# Altium integrated library TI Power Management DC-DC Controller (External Switch).IntLib: 349 symbols (part 14 of 28)
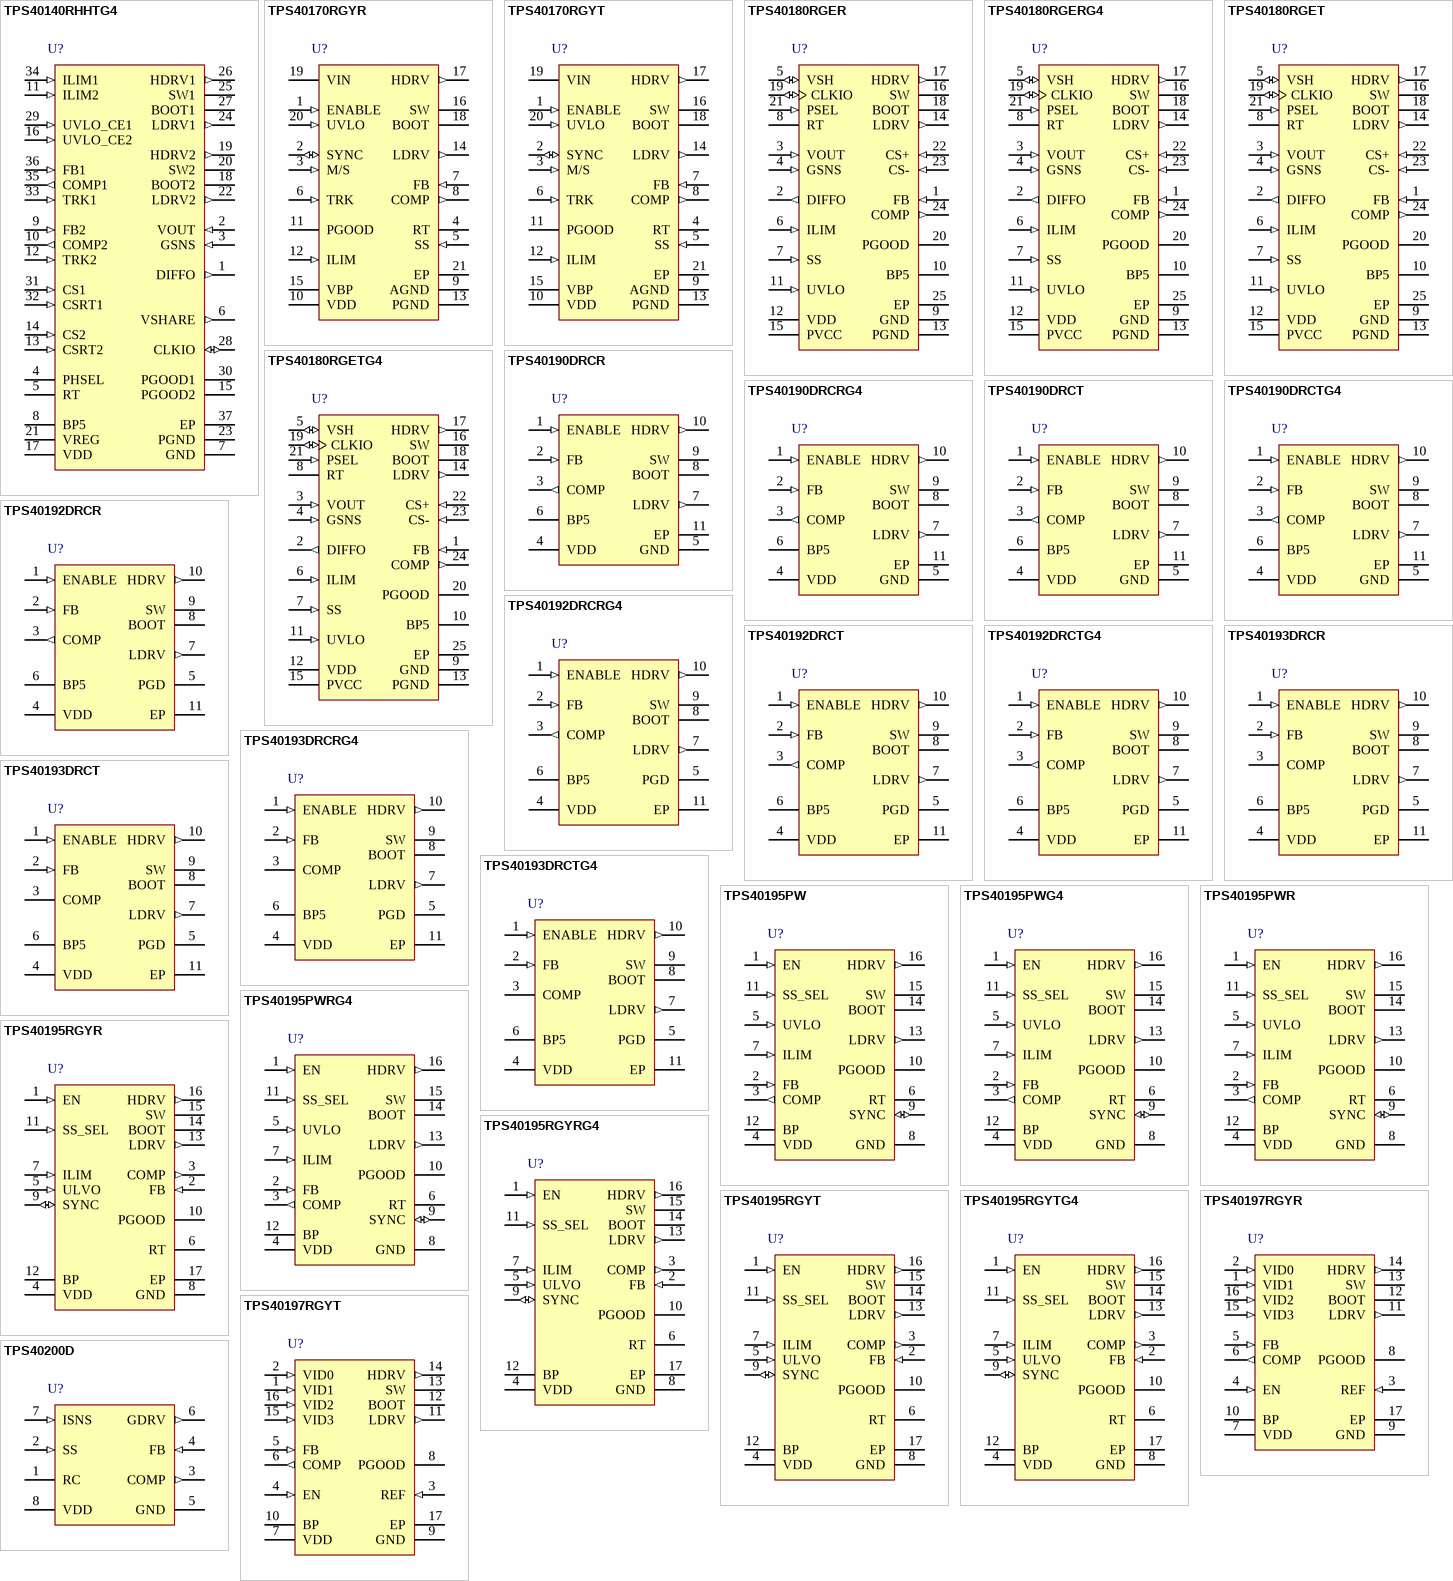
[diagram p27: symbols TPS40140RHHTG4 to TPS40200D]

## TPS40195PWG4
designator U?
4.5 to 20 V Buck Controller with Synchronization and Power Good, 85 % Duty Cycle, -40 to 85 degC, 16-pin TSSOP (PW), Green (RoHS & no Sb/Br); Manufacturer: Texas Instruments; PartNumber: TPS40195PWG4; Duty Cycle(Max)(%): 85; Iout(Max)(A): 20; Regulated Outputs(#): 1; SubFamily: Step-Down Controller; Switching Frequency(Max)(kHz): 600; Synchronous Rectification: TRUE; Vin(Min)(V): 4.5; Vout(Max)(V): 17; Vout(Min)(V): 0.591; DatasheetVersion: SLUS720E; PackageVersion: revG, Feb-2011; PackageReference: PW16; PackageDescription: 16-Pin Plastic Thin Small Outline Package 5 x 4.4 mm Body ,0.65 mm Pitch; Supplier 1: Digi-Key; Supplier Part Number 1: TPS40195PWG4-ND; Supplier 2: Newark; Supplier Part Number 2: 34M0171; Supplier 3: Mouser; Supplier Part Number 3: 595-TPS40195PWG4; Eco-Plan: Green (RoHS & no Sb/Br); Topology: Buck; Vin(Max)(V): 20; Mounting Technology: Surface Mount; Code_JEDEC: MO-153; ComponentLink1Description: Datasheet; ComponentLink1URL: http://www.ti.com/general/docs/lit/getliterature.tsp?genericPartNumber=TPS40195&fileType=pdf; ComponentLink2Description: Package Specification; ComponentLink2URL: http://www.ti.com/litv/pdf/mpds361
footprint PW16_N (TSOP, 16-Leads, Body 5x4.4mm, Pitch 0.65mm, IPC Medium Density)
footprint PW16_L (TSOP, 16-Leads, Body 5x4.4mm, Pitch 0.65mm, IPC High Density)
footprint PW16_M (TSOP, 16-Leads, Body 5x4.4mm, Pitch 0.65mm, IPC Low Density)
pins: 1 EN (in) "Logic level input which starts or stops the controller from an external user command. A high-level turns the controller on. A weak internal pull-up holds this pin high so that the pin may be left floating if this function is (See Datasheet)", 2 FB (in) "Inverting input to the error amplifier. In normal operation the voltage on this pin is equal to the internal reference voltage (591 mV typical)", 3 COMP (out) "Output of the error amplifier.", 4 VDD (power) "Power input to the controller. A 100 nF bypass capacitor should be connected closely from this pin to GND.", 5 UVLO (in) "Programmable UVLO pin for the controller. A resistor divider on this pin to VDD sets the converter turn on voltage and the hysteresis for turn-off.", 6 RT "Switching frequency programming pin. Also determines function of SYNC pin. Connected to GND for 250 kHz operation and using SYNC as an output. Connect to BP for 500-kHz operation and using SYNC as an output. Connect a (See Datasheet)", 7 ILIM (in) "Current limit. Sets short circuit protection threshold for low-side MOSFET sensing. Connect a resistor to GND to set the threshold", 8 GND (power) "Common reference for the device", 9 SYNC (io) "Bidirectional synchronization I/O pin. SYNC is an output when the RT pin is connected to BP or GND. The output is a falling edge signal 180degrees out-of-phase with the rising edge of HDRV. In this mode SYNC can be used to (See Datasheet)", 10 PGOOD (oc) "Open drain power good output. Pulls low under any fault condition, soft start is active or if the FB pin voltage is outside the specified voltage window.", 11 SS_SEL (in) "Soft-start timing selection. Can be connected to GND, BP or left floating to select a soft start time that is proportional to the switching frequency.", 12 BP (power) "Output bypass for the internal regulator. Connect a capacitor of 1-uF (or greater) from this pin to GND. Larger capacitors, up to 4.7uF will improve noise performance with a low side FET Qg over 25nC. Do not connect to VDD (See Datasheet)", 13 LDRV (out) "Gate drive output for the low side N-channel FET.", 14 BOOT (power) "Gate drive voltage for the high-side N-channel MOSFET. A 100-nF capacitor (typical) must be connected between this pin and SW", 15 SW (power) "Sense line for the adaptive anti-cross conduction circuitry. Serves as common connection for the flying high- side MOSFET driver", 16 HDRV (out) "Gate drive output to the high-side N-channel FET."

## TPS40195PWR
designator U?
4.5 to 20 V Buck Controller with Synchronization and Power Good, 85 % Duty Cycle, -40 to 85 degC, 16-pin TSSOP (PW), Green (RoHS & no Sb/Br); Manufacturer: Texas Instruments; PartNumber: TPS40195PWR; Duty Cycle(Max)(%): 85; Iout(Max)(A): 20; Regulated Outputs(#): 1; SubFamily: Step-Down Controller; Switching Frequency(Max)(kHz): 600; Synchronous Rectification: TRUE; Vin(Min)(V): 4.5; Vout(Max)(V): 17; Vout(Min)(V): 0.591; DatasheetVersion: SLUS720E; PackageVersion: revG, Feb-2011; PackageReference: PW16; PackageDescription: 16-Pin Plastic Thin Small Outline Package 5 x 4.4 mm Body ,0.65 mm Pitch; Supplier 1: Digi-Key; Supplier Part Number 1: 296-21617-2-ND; Supplier 2: Digi-Key; Supplier Part Number 2: 296-21617-1-ND; Supplier 3: Digi-Key; Supplier Part Number 3: 296-21617-6-ND; Supplier 4: Newark; Supplier Part Number 4: 34M0172; Supplier 5: Mouser; Supplier Part Number 5: 595-TPS40195PWR; Eco-Plan: Green (RoHS & no Sb/Br); Topology: Buck; Vin(Max)(V): 20; Mounting Technology: Surface Mount; Code_JEDEC: MO-153; ComponentLink1Description: Datasheet; ComponentLink1URL: http://www.ti.com/general/docs/lit/getliterature.tsp?genericPartNumber=TPS40195&fileType=pdf; ComponentLink2Description: Package Specification; ComponentLink2URL: http://www.ti.com/litv/pdf/mpds361
footprint PW16_N (TSOP, 16-Leads, Body 5x4.4mm, Pitch 0.65mm, IPC Medium Density)
footprint PW16_L (TSOP, 16-Leads, Body 5x4.4mm, Pitch 0.65mm, IPC High Density)
footprint PW16_M (TSOP, 16-Leads, Body 5x4.4mm, Pitch 0.65mm, IPC Low Density)
pins: 1 EN (in) "Logic level input which starts or stops the controller from an external user command. A high-level turns the controller on. A weak internal pull-up holds this pin high so that the pin may be left floating if this function is (See Datasheet)", 2 FB (in) "Inverting input to the error amplifier. In normal operation the voltage on this pin is equal to the internal reference voltage (591 mV typical)", 3 COMP (out) "Output of the error amplifier.", 4 VDD (power) "Power input to the controller. A 100 nF bypass capacitor should be connected closely from this pin to GND.", 5 UVLO (in) "Programmable UVLO pin for the controller. A resistor divider on this pin to VDD sets the converter turn on voltage and the hysteresis for turn-off.", 6 RT "Switching frequency programming pin. Also determines function of SYNC pin. Connected to GND for 250 kHz operation and using SYNC as an output. Connect to BP for 500-kHz operation and using SYNC as an output. Connect a (See Datasheet)", 7 ILIM (in) "Current limit. Sets short circuit protection threshold for low-side MOSFET sensing. Connect a resistor to GND to set the threshold", 8 GND (power) "Common reference for the device", 9 SYNC (io) "Bidirectional synchronization I/O pin. SYNC is an output when the RT pin is connected to BP or GND. The output is a falling edge signal 180degrees out-of-phase with the rising edge of HDRV. In this mode SYNC can be used to (See Datasheet)", 10 PGOOD (oc) "Open drain power good output. Pulls low under any fault condition, soft start is active or if the FB pin voltage is outside the specified voltage window.", 11 SS_SEL (in) "Soft-start timing selection. Can be connected to GND, BP or left floating to select a soft start time that is proportional to the switching frequency.", 12 BP (power) "Output bypass for the internal regulator. Connect a capacitor of 1-uF (or greater) from this pin to GND. Larger capacitors, up to 4.7uF will improve noise performance with a low side FET Qg over 25nC. Do not connect to VDD (See Datasheet)", 13 LDRV (out) "Gate drive output for the low side N-channel FET.", 14 BOOT (power) "Gate drive voltage for the high-side N-channel MOSFET. A 100-nF capacitor (typical) must be connected between this pin and SW", 15 SW (power) "Sense line for the adaptive anti-cross conduction circuitry. Serves as common connection for the flying high- side MOSFET driver", 16 HDRV (out) "Gate drive output to the high-side N-channel FET."

## TPS40195PWRG4
designator U?
4.5 to 20 V Buck Controller with Synchronization and Power Good, 85 % Duty Cycle, -40 to 85 degC, 16-pin TSSOP (PW), Green (RoHS & no Sb/Br); Manufacturer: Texas Instruments; PartNumber: TPS40195PWRG4; Duty Cycle(Max)(%): 85; Iout(Max)(A): 20; Regulated Outputs(#): 1; SubFamily: Step-Down Controller; Switching Frequency(Max)(kHz): 600; Synchronous Rectification: TRUE; Vin(Min)(V): 4.5; Vout(Max)(V): 17; Vout(Min)(V): 0.591; DatasheetVersion: SLUS720E; PackageVersion: revG, Feb-2011; PackageReference: PW16; PackageDescription: 16-Pin Plastic Thin Small Outline Package 5 x 4.4 mm Body ,0.65 mm Pitch; Supplier 1: Digi-Key; Supplier Part Number 1: TPS40195PWRG4-ND; Supplier 2: Newark; Supplier Part Number 2: 34M0173; Supplier 3: Mouser; Supplier Part Number 3: 595-TPS40195PWRG4; Eco-Plan: Green (RoHS & no Sb/Br); Topology: Buck; Vin(Max)(V): 20; Mounting Technology: Surface Mount; Code_JEDEC: MO-153; ComponentLink1Description: Datasheet; ComponentLink1URL: http://www.ti.com/general/docs/lit/getliterature.tsp?genericPartNumber=TPS40195&fileType=pdf; ComponentLink2Description: Package Specification; ComponentLink2URL: http://www.ti.com/litv/pdf/mpds361
footprint PW16_N (TSOP, 16-Leads, Body 5x4.4mm, Pitch 0.65mm, IPC Medium Density)
footprint PW16_L (TSOP, 16-Leads, Body 5x4.4mm, Pitch 0.65mm, IPC High Density)
footprint PW16_M (TSOP, 16-Leads, Body 5x4.4mm, Pitch 0.65mm, IPC Low Density)
pins: 1 EN (in) "Logic level input which starts or stops the controller from an external user command. A high-level turns the controller on. A weak internal pull-up holds this pin high so that the pin may be left floating if this function is (See Datasheet)", 2 FB (in) "Inverting input to the error amplifier. In normal operation the voltage on this pin is equal to the internal reference voltage (591 mV typical)", 3 COMP (out) "Output of the error amplifier.", 4 VDD (power) "Power input to the controller. A 100 nF bypass capacitor should be connected closely from this pin to GND.", 5 UVLO (in) "Programmable UVLO pin for the controller. A resistor divider on this pin to VDD sets the converter turn on voltage and the hysteresis for turn-off.", 6 RT "Switching frequency programming pin. Also determines function of SYNC pin. Connected to GND for 250 kHz operation and using SYNC as an output. Connect to BP for 500-kHz operation and using SYNC as an output. Connect a (See Datasheet)", 7 ILIM (in) "Current limit. Sets short circuit protection threshold for low-side MOSFET sensing. Connect a resistor to GND to set the threshold", 8 GND (power) "Common reference for the device", 9 SYNC (io) "Bidirectional synchronization I/O pin. SYNC is an output when the RT pin is connected to BP or GND. The output is a falling edge signal 180degrees out-of-phase with the rising edge of HDRV. In this mode SYNC can be used to (See Datasheet)", 10 PGOOD (oc) "Open drain power good output. Pulls low under any fault condition, soft start is active or if the FB pin voltage is outside the specified voltage window.", 11 SS_SEL (in) "Soft-start timing selection. Can be connected to GND, BP or left floating to select a soft start time that is proportional to the switching frequency.", 12 BP (power) "Output bypass for the internal regulator. Connect a capacitor of 1-uF (or greater) from this pin to GND. Larger capacitors, up to 4.7uF will improve noise performance with a low side FET Qg over 25nC. Do not connect to VDD (See Datasheet)", 13 LDRV (out) "Gate drive output for the low side N-channel FET.", 14 BOOT (power) "Gate drive voltage for the high-side N-channel MOSFET. A 100-nF capacitor (typical) must be connected between this pin and SW", 15 SW (power) "Sense line for the adaptive anti-cross conduction circuitry. Serves as common connection for the flying high- side MOSFET driver", 16 HDRV (out) "Gate drive output to the high-side N-channel FET."

## TPS40195RGYR
designator U?
4.5 to 20 V Buck Controller with Synchronization and Power Good, 85 % Duty Cycle, -40 to 85 degC, 16-pin VQFN (RGY), Green (RoHS & no Sb/Br); Manufacturer: Texas Instruments; PartNumber: TPS40195RGYR; Duty Cycle(Max)(%): 85; Iout(Max)(A): 20; Regulated Outputs(#): 1; SubFamily: Step-Down Controller; Switching Frequency(Max)(kHz): 600; Synchronous Rectification: TRUE; Vin(Min)(V): 4.5; Vout(Max)(V): 17; Vout(Min)(V): 0.591; DatasheetVersion: SLUS720E; PackageVersion: revI, Jun-2011; PackageReference: RGY16-2550X2050TP; PackageDescription: 16-Leads Plastic Quad Flatpack No-Lead, 3.5 x 4 x 0.9 mm Body, 0.5 mm Pitch; Supplier 1: Digi-Key; Supplier Part Number 1: 296-22070-2-ND; Supplier 2: Digi-Key; Supplier Part Number 2: 296-22070-1-ND; Supplier 3: Digi-Key; Supplier Part Number 3: 296-22070-6-ND; Supplier 4: Newark; Supplier Part Number 4: 54M7410; Supplier 5: Mouser; Supplier Part Number 5: 595-TPS40195RGYR; Eco-Plan: Green (RoHS & no Sb/Br); Topology: Buck; Vin(Max)(V): 20; Mounting Technology: Surface Mount; Code_JEDEC: MO-241-BA; ComponentLink1Description: Datasheet; ComponentLink1URL: http://www.ti.com/general/docs/lit/getliterature.tsp?genericPartNumber=TPS40195&fileType=pdf; ComponentLink2Description: Package Specification; ComponentLink2URL: http://www.ti.com/litv/pdf/mpqf115g
footprint RGY16-2550X2050TP (QFN, 16-Leads, Body 4x3.5mm, Pitch 0.5mm, Thermal Pad 2.55x2.05mm, TI Recommended)
pins: 1 EN (in) "Logic level input which starts or stops the controller from an external user command. A high-level turns the controller on. A weak internal pull-up holds this pin high so that the pin may be left floating if this function is (See Datasheet)", 2 FB (in) "Inverting input to the error amplifier. In normal operation the voltage on this pin is equal to the internal reference voltage (591 mV typical)", 3 COMP (out) "Output of the error amplifier.", 4 VDD (power) "Power input to the controller. A 100 nF bypass capacitor should be connected closely from this pin to GND.", 5 ULVO (in) "Programmable UVLO pin for the controller. A resistor divider on this pin to VDD sets the converter turn on voltage and the hysteresis for turn-off.", 6 RT "Switching frequency programming pin. Also determines function of SYNC pin. Connected to GND for 250 kHz operation and using SYNC as an output. Connect to BP for 500-kHz operation and using SYNC as an output. Connect a (See Datasheet)", 7 ILIM (in) "Current limit. Sets short circuit protection threshold for low-side MOSFET sensing. Connect a resistor to GND to set the threshold", 8 GND (power) "Common reference for the device", 9 SYNC (io) "Bidirectional synchronization I/O pin. SYNC is an output when the RT pin is connected to BP or GND. The output is a falling edge signal 180degrees out-of-phase with the rising edge of HDRV. In this mode SYNC can be used to (See Datasheet)", 10 PGOOD (oc) "Open drain power good output. Pulls low under any fault condition, soft start is active or if the FB pin voltage is outside the specified voltage window.", 11 SS_SEL (in) "Soft-start timing selection. Can be connected to GND, BP or left floating to select a soft start time that is proportional to the switching frequency.", 12 BP (power) "Output bypass for the internal regulator. Connect a capacitor of 1-uF (or greater) from this pin to GND. Larger capacitors, up to 4.7uF will improve noise performance with a low side FET Qg over 25nC. Do not connect to VDD (See Datasheet)", 13 LDRV (out) "Gate drive output for the low side N-channel FET.", 14 BOOT (power) "Gate drive voltage for the high-side N-channel MOSFET. A 100-nF capacitor (typical) must be connected between this pin and SW.", 15 SW (power) "Sense line for the adaptive anti-cross conduction circuitry. Serves as common connection for the flying high- side MOSFET driver", 16 HDRV (out) "Gate drive output to the high-side N-channel FET.", 17 EP "Exposed Thermal Pad."

## TPS40195RGYRG4
designator U?
4.5 to 20 V Buck Controller with Synchronization and Power Good, 85 % Duty Cycle, -40 to 85 degC, 16-pin VQFN (RGY), Green (RoHS & no Sb/Br); Manufacturer: Texas Instruments; PartNumber: TPS40195RGYRG4; Duty Cycle(Max)(%): 85; Iout(Max)(A): 20; Regulated Outputs(#): 1; SubFamily: Step-Down Controller; Switching Frequency(Max)(kHz): 600; Synchronous Rectification: TRUE; Vin(Min)(V): 4.5; Vout(Max)(V): 17; Vout(Min)(V): 0.591; DatasheetVersion: SLUS720E; PackageVersion: revI, Jun-2011; PackageReference: RGY16-2550X2050TP; PackageDescription: 16-Leads Plastic Quad Flatpack No-Lead, 3.5 x 4 x 0.9 mm Body, 0.5 mm Pitch; Supplier 1: Digi-Key; Supplier Part Number 1: TPS40195RGYRG4-ND; Supplier 2: Newark; Supplier Part Number 2: 60M1790; Supplier 3: Mouser; Supplier Part Number 3: 595-TPS40195RGYRG4; Eco-Plan: Green (RoHS & no Sb/Br); Topology: Buck; Vin(Max)(V): 20; Mounting Technology: Surface Mount; Code_JEDEC: MO-241-BA; ComponentLink1Description: Datasheet; ComponentLink1URL: http://www.ti.com/general/docs/lit/getliterature.tsp?genericPartNumber=TPS40195&fileType=pdf; ComponentLink2Description: Package Specification; ComponentLink2URL: http://www.ti.com/litv/pdf/mpqf115g
footprint RGY16-2550X2050TP (QFN, 16-Leads, Body 4x3.5mm, Pitch 0.5mm, Thermal Pad 2.55x2.05mm, TI Recommended)
pins: 1 EN (in) "Logic level input which starts or stops the controller from an external user command. A high-level turns the controller on. A weak internal pull-up holds this pin high so that the pin may be left floating if this function is (See Datasheet)", 2 FB (in) "Inverting input to the error amplifier. In normal operation the voltage on this pin is equal to the internal reference voltage (591 mV typical)", 3 COMP (out) "Output of the error amplifier.", 4 VDD (power) "Power input to the controller. A 100 nF bypass capacitor should be connected closely from this pin to GND.", 5 ULVO (in) "Programmable UVLO pin for the controller. A resistor divider on this pin to VDD sets the converter turn on voltage and the hysteresis for turn-off.", 6 RT "Switching frequency programming pin. Also determines function of SYNC pin. Connected to GND for 250 kHz operation and using SYNC as an output. Connect to BP for 500-kHz operation and using SYNC as an output. Connect a (See Datasheet)", 7 ILIM (in) "Current limit. Sets short circuit protection threshold for low-side MOSFET sensing. Connect a resistor to GND to set the threshold", 8 GND (power) "Common reference for the device", 9 SYNC (io) "Bidirectional synchronization I/O pin. SYNC is an output when the RT pin is connected to BP or GND. The output is a falling edge signal 180degrees out-of-phase with the rising edge of HDRV. In this mode SYNC can be used to (See Datasheet)", 10 PGOOD (oc) "Open drain power good output. Pulls low under any fault condition, soft start is active or if the FB pin voltage is outside the specified voltage window.", 11 SS_SEL (in) "Soft-start timing selection. Can be connected to GND, BP or left floating to select a soft start time that is proportional to the switching frequency.", 12 BP (power) "Output bypass for the internal regulator. Connect a capacitor of 1-uF (or greater) from this pin to GND. Larger capacitors, up to 4.7uF will improve noise performance with a low side FET Qg over 25nC. Do not connect to VDD (See Datasheet)", 13 LDRV (out) "Gate drive output for the low side N-channel FET.", 14 BOOT (power) "Gate drive voltage for the high-side N-channel MOSFET. A 100-nF capacitor (typical) must be connected between this pin and SW.", 15 SW (power) "Sense line for the adaptive anti-cross conduction circuitry. Serves as common connection for the flying high- side MOSFET driver", 16 HDRV (out) "Gate drive output to the high-side N-channel FET.", 17 EP "Exposed Thermal Pad."

## TPS40195RGYT
designator U?
4.5 to 20 V Buck Controller with Synchronization and Power Good, 85 % Duty Cycle, -40 to 85 degC, 16-pin VQFN (RGY), Green (RoHS & no Sb/Br); Manufacturer: Texas Instruments; PartNumber: TPS40195RGYT; Duty Cycle(Max)(%): 85; Iout(Max)(A): 20; Regulated Outputs(#): 1; SubFamily: Step-Down Controller; Switching Frequency(Max)(kHz): 600; Synchronous Rectification: TRUE; Vin(Min)(V): 4.5; Vout(Max)(V): 17; Vout(Min)(V): 0.591; DatasheetVersion: SLUS720E; PackageVersion: revI, Jun-2011; PackageReference: RGY16-2550X2050TP; PackageDescription: 16-Leads Plastic Quad Flatpack No-Lead, 3.5 x 4 x 0.9 mm Body, 0.5 mm Pitch; Supplier 1: Digi-Key; Supplier Part Number 1: 296-32488-2-ND; Supplier 2: Digi-Key; Supplier Part Number 2: 296-32488-1-ND; Supplier 3: Digi-Key; Supplier Part Number 3: 296-32488-6-ND; Supplier 4: Newark; Supplier Part Number 4: 54M7411; Supplier 5: Mouser; Supplier Part Number 5: 595-TPS40195RGYT; Eco-Plan: Green (RoHS & no Sb/Br); Topology: Buck; Vin(Max)(V): 20; Mounting Technology: Surface Mount; Code_JEDEC: MO-241-BA; ComponentLink1Description: Datasheet; ComponentLink1URL: http://www.ti.com/general/docs/lit/getliterature.tsp?genericPartNumber=TPS40195&fileType=pdf; ComponentLink2Description: Package Specification; ComponentLink2URL: http://www.ti.com/litv/pdf/mpqf115g
footprint RGY16-2550X2050TP (QFN, 16-Leads, Body 4x3.5mm, Pitch 0.5mm, Thermal Pad 2.55x2.05mm, TI Recommended)
pins: 1 EN (in) "Logic level input which starts or stops the controller from an external user command. A high-level turns the controller on. A weak internal pull-up holds this pin high so that the pin may be left floating if this function is (See Datasheet)", 2 FB (in) "Inverting input to the error amplifier. In normal operation the voltage on this pin is equal to the internal reference voltage (591 mV typical)", 3 COMP (out) "Output of the error amplifier.", 4 VDD (power) "Power input to the controller. A 100 nF bypass capacitor should be connected closely from this pin to GND.", 5 ULVO (in) "Programmable UVLO pin for the controller. A resistor divider on this pin to VDD sets the converter turn on voltage and the hysteresis for turn-off.", 6 RT "Switching frequency programming pin. Also determines function of SYNC pin. Connected to GND for 250 kHz operation and using SYNC as an output. Connect to BP for 500-kHz operation and using SYNC as an output. Connect a (See Datasheet)", 7 ILIM (in) "Current limit. Sets short circuit protection threshold for low-side MOSFET sensing. Connect a resistor to GND to set the threshold", 8 GND (power) "Common reference for the device", 9 SYNC (io) "Bidirectional synchronization I/O pin. SYNC is an output when the RT pin is connected to BP or GND. The output is a falling edge signal 180degrees out-of-phase with the rising edge of HDRV. In this mode SYNC can be used to (See Datasheet)", 10 PGOOD (oc) "Open drain power good output. Pulls low under any fault condition, soft start is active or if the FB pin voltage is outside the specified voltage window.", 11 SS_SEL (in) "Soft-start timing selection. Can be connected to GND, BP or left floating to select a soft start time that is proportional to the switching frequency.", 12 BP (power) "Output bypass for the internal regulator. Connect a capacitor of 1-uF (or greater) from this pin to GND. Larger capacitors, up to 4.7uF will improve noise performance with a low side FET Qg over 25nC. Do not connect to VDD (See Datasheet)", 13 LDRV (out) "Gate drive output for the low side N-channel FET.", 14 BOOT (power) "Gate drive voltage for the high-side N-channel MOSFET. A 100-nF capacitor (typical) must be connected between this pin and SW.", 15 SW (power) "Sense line for the adaptive anti-cross conduction circuitry. Serves as common connection for the flying high- side MOSFET driver", 16 HDRV (out) "Gate drive output to the high-side N-channel FET.", 17 EP "Exposed Thermal Pad."

## TPS40195RGYTG4
designator U?
4.5 to 20 V Buck Controller with Synchronization and Power Good, 85 % Duty Cycle, -40 to 85 degC, 16-pin VQFN (RGY), Green (RoHS & no Sb/Br); Manufacturer: Texas Instruments; PartNumber: TPS40195RGYTG4; Duty Cycle(Max)(%): 85; Iout(Max)(A): 20; Regulated Outputs(#): 1; SubFamily: Step-Down Controller; Switching Frequency(Max)(kHz): 600; Synchronous Rectification: TRUE; Vin(Min)(V): 4.5; Vout(Max)(V): 17; Vout(Min)(V): 0.591; DatasheetVersion: SLUS720E; PackageVersion: revI, Jun-2011; PackageReference: RGY16-2550X2050TP; PackageDescription: 16-Leads Plastic Quad Flatpack No-Lead, 3.5 x 4 x 0.9 mm Body, 0.5 mm Pitch; Supplier 1: Digi-Key; Supplier Part Number 1: TPS40195RGYTG4-ND; Supplier 2: Newark; Supplier Part Number 2: 60M1791; Supplier 3: Mouser; Supplier Part Number 3: 595-TPS40195RGYTG4; Eco-Plan: Green (RoHS & no Sb/Br); Topology: Buck; Vin(Max)(V): 20; Mounting Technology: Surface Mount; Code_JEDEC: MO-241-BA; ComponentLink1Description: Datasheet; ComponentLink1URL: http://www.ti.com/general/docs/lit/getliterature.tsp?genericPartNumber=TPS40195&fileType=pdf; ComponentLink2Description: Package Specification; ComponentLink2URL: http://www.ti.com/litv/pdf/mpqf115g
footprint RGY16-2550X2050TP (QFN, 16-Leads, Body 4x3.5mm, Pitch 0.5mm, Thermal Pad 2.55x2.05mm, TI Recommended)
pins: 1 EN (in) "Logic level input which starts or stops the controller from an external user command. A high-level turns the controller on. A weak internal pull-up holds this pin high so that the pin may be left floating if this function is (See Datasheet)", 2 FB (in) "Inverting input to the error amplifier. In normal operation the voltage on this pin is equal to the internal reference voltage (591 mV typical)", 3 COMP (out) "Output of the error amplifier.", 4 VDD (power) "Power input to the controller. A 100 nF bypass capacitor should be connected closely from this pin to GND.", 5 ULVO (in) "Programmable UVLO pin for the controller. A resistor divider on this pin to VDD sets the converter turn on voltage and the hysteresis for turn-off.", 6 RT "Switching frequency programming pin. Also determines function of SYNC pin. Connected to GND for 250 kHz operation and using SYNC as an output. Connect to BP for 500-kHz operation and using SYNC as an output. Connect a (See Datasheet)", 7 ILIM (in) "Current limit. Sets short circuit protection threshold for low-side MOSFET sensing. Connect a resistor to GND to set the threshold", 8 GND (power) "Common reference for the device", 9 SYNC (io) "Bidirectional synchronization I/O pin. SYNC is an output when the RT pin is connected to BP or GND. The output is a falling edge signal 180degrees out-of-phase with the rising edge of HDRV. In this mode SYNC can be used to (See Datasheet)", 10 PGOOD (oc) "Open drain power good output. Pulls low under any fault condition, soft start is active or if the FB pin voltage is outside the specified voltage window.", 11 SS_SEL (in) "Soft-start timing selection. Can be connected to GND, BP or left floating to select a soft start time that is proportional to the switching frequency.", 12 BP (power) "Output bypass for the internal regulator. Connect a capacitor of 1-uF (or greater) from this pin to GND. Larger capacitors, up to 4.7uF will improve noise performance with a low side FET Qg over 25nC. Do not connect to VDD (See Datasheet)", 13 LDRV (out) "Gate drive output for the low side N-channel FET.", 14 BOOT (power) "Gate drive voltage for the high-side N-channel MOSFET. A 100-nF capacitor (typical) must be connected between this pin and SW.", 15 SW (power) "Sense line for the adaptive anti-cross conduction circuitry. Serves as common connection for the flying high- side MOSFET driver", 16 HDRV (out) "Gate drive output to the high-side N-channel FET.", 17 EP "Exposed Thermal Pad."

## TPS40197RGYR
designator U?
4.5 to 14 V Input Synchronous Buck Controller with 4 Bit Vid Interface And Power Good, 85 % Duty Cycle, 4.5 to 14 V, -40 to 85 degC, 16-pin VQFN (RGY), Green (RoHS & no Sb/Br); Manufacturer: Texas Instruments; PartNumber: TPS40197RGYR; Duty Cycle(Max)(%): 85; Iout(Max)(A): 6; Regulated Outputs(#): 1; SubFamily: Step-Down Controller; Switching Frequency(Max)(kHz): 520; Synchronous Rectification: TRUE; Vin(Max)(V): 14; Vin(Min)(V): 4.5; Vout(Max)(V): 1.2; Vout(Min)(V): 0.9; DatasheetVersion: SLUS886A; PackageVersion: revI, Jun-2011; PackageReference: RGY16-2550X2050TP; PackageDescription: 16-Leads Plastic Quad Flatpack No-Lead, 3.5 x 4 x 0.9 mm Body, 0.5 mm Pitch; Supplier 1: Digi-Key; Supplier Part Number 1: 296-23935-2-ND; Supplier 2: Digi-Key; Supplier Part Number 2: 296-23935-1-ND; Supplier 3: Digi-Key; Supplier Part Number 3: 296-23935-6-ND; Supplier 4: Mouser; Supplier Part Number 4: 595-TPS40197RGYR; Eco-Plan: Green (RoHS & no Sb/Br); Topology: Buck; Mounting Technology: Surface Mount; Code_JEDEC: MO-241-BA; ComponentLink1Description: Datasheet; ComponentLink1URL: http://www.ti.com/general/docs/lit/getliterature.tsp?genericPartNumber=TPS40197&fileType=pdf; ComponentLink2Description: Package Specification; ComponentLink2URL: http://www.ti.com/litv/pdf/mpqf115g
footprint RGY16-2550X2050TP (QFN, 16-Leads, Body 4x3.5mm, Pitch 0.5mm, Thermal Pad 2.55x2.05mm, TI Recommended)
pins: 1 VID1 (in) "Logic level inputs to the internal DAC that provides the reference voltage for output regulation. These pins are internally pulled up to a 1.68-V source with 80-uA pull-up current.", 2 VID0 (in) "Logic level inputs to the internal DAC that provides the reference voltage for output regulation. These pins are internally pulled up to a 1.68-V source with 80-uA pull-up current.", 3 REF (in) "Non-Inverting input to the error amplifier. Its voltage range is from 0.9 V to 1.2 V in 20-mV steps. It is also internally connected to the DAC output through a unit gain buffer with 650-uA source/sink current capability.An (See Datasheet)", 4 EN (in) "Logic level input which starts or stops the controller from an external user command. A high level turns the  controller on. A weak internal pull-up holds this pin high so that the pin may be left floating if this function (See Datasheet)", 5 FB (in) "Inverting input to the error amplifier.", 6 COMP (out) "Output of the error amplifier and connection node for loop feedback components.", 7 VDD (power) "Power input to the controller. A 1-uF bypass capacitor should be connected closely from this pin to GND.", 8 PGOOD (oc) "Open drain power good output.", 9 GND (power) "Ground connection to the controller", 10 BP (power) "Output bypass for the internal regulator. Connect a low ESR bypass ceramic capacitor of 1 uF or greater from this pin to GND.", 11 LDRV (out) "Gate drive output for the low-side synchronous rectifier N-channel MOSFET.", 12 BOOT (power) "Gate drive voltage for the high-side N-channel MOSFET. A 100-nF capacitor (typical) must be connected between this pin and SW.", 13 SW (power), 14 HDRV (out) "Bootstrapped gate drive output for the high-side N-channel MOSFET.", 15 VID3 (in) "Logic level inputs to the internal DAC that provides the reference voltage for output regulation. These pins are internally pulled up to a 1.68-V source with 80-uA pull-up current.", 16 VID2 (in) "Logic level inputs to the internal DAC that provides the reference voltage for output regulation. These pins are internally pulled up to a 1.68-V source with 80-uA pull-up current.", 17 EP "THERMAL PAD"

## TPS40197RGYT
designator U?
4.5 to 14 V Input Synchronous Buck Controller with 4 Bit Vid Interface And Power Good, 85 % Duty Cycle, 4.5 to 14 V, -40 to 85 degC, 16-pin VQFN (RGY), Green (RoHS & no Sb/Br); Manufacturer: Texas Instruments; PartNumber: TPS40197RGYT; Duty Cycle(Max)(%): 85; Iout(Max)(A): 6; Regulated Outputs(#): 1; SubFamily: Step-Down Controller; Switching Frequency(Max)(kHz): 520; Synchronous Rectification: TRUE; Vin(Max)(V): 14; Vin(Min)(V): 4.5; Vout(Max)(V): 1.2; Vout(Min)(V): 0.9; DatasheetVersion: SLUS886A; PackageVersion: revI, Jun-2011; PackageReference: RGY16-2550X2050TP; PackageDescription: 16-Leads Plastic Quad Flatpack No-Lead, 3.5 x 4 x 0.9 mm Body, 0.5 mm Pitch; Supplier 1: Digi-Key; Supplier Part Number 1: 296-32489-2-ND; Supplier 2: Digi-Key; Supplier Part Number 2: 296-32489-1-ND; Supplier 3: Digi-Key; Supplier Part Number 3: 296-32489-6-ND; Supplier 4: Farnell; Supplier Part Number 4: 1689427; Supplier 5: Newark; Supplier Part Number 5: 34P2010; Supplier 6: Mouser; Supplier Part Number 6: 595-TPS40197RGYT; Eco-Plan: Green (RoHS & no Sb/Br); Topology: Buck; Mounting Technology: Surface Mount; Code_JEDEC: MO-241-BA; ComponentLink1Description: Datasheet; ComponentLink1URL: http://www.ti.com/general/docs/lit/getliterature.tsp?genericPartNumber=TPS40197&fileType=pdf; ComponentLink2Description: Package Specification; ComponentLink2URL: http://www.ti.com/litv/pdf/mpqf115g
footprint RGY16-2550X2050TP (QFN, 16-Leads, Body 4x3.5mm, Pitch 0.5mm, Thermal Pad 2.55x2.05mm, TI Recommended)
pins: 1 VID1 (in) "Logic level inputs to the internal DAC that provides the reference voltage for output regulation. These pins are internally pulled up to a 1.68-V source with 80-uA pull-up current.", 2 VID0 (in) "Logic level inputs to the internal DAC that provides the reference voltage for output regulation. These pins are internally pulled up to a 1.68-V source with 80-uA pull-up current.", 3 REF (in) "Non-Inverting input to the error amplifier. Its voltage range is from 0.9 V to 1.2 V in 20-mV steps. It is also internally connected to the DAC output through a unit gain buffer with 650-uA source/sink current capability.An (See Datasheet)", 4 EN (in) "Logic level input which starts or stops the controller from an external user command. A high level turns the  controller on. A weak internal pull-up holds this pin high so that the pin may be left floating if this function (See Datasheet)", 5 FB (in) "Inverting input to the error amplifier.", 6 COMP (out) "Output of the error amplifier and connection node for loop feedback components.", 7 VDD (power) "Power input to the controller. A 1-uF bypass capacitor should be connected closely from this pin to GND.", 8 PGOOD (oc) "Open drain power good output.", 9 GND (power) "Ground connection to the controller", 10 BP (power) "Output bypass for the internal regulator. Connect a low ESR bypass ceramic capacitor of 1 uF or greater from this pin to GND.", 11 LDRV (out) "Gate drive output for the low-side synchronous rectifier N-channel MOSFET.", 12 BOOT (power) "Gate drive voltage for the high-side N-channel MOSFET. A 100-nF capacitor (typical) must be connected between this pin and SW.", 13 SW (power), 14 HDRV (out) "Bootstrapped gate drive output for the high-side N-channel MOSFET.", 15 VID3 (in) "Logic level inputs to the internal DAC that provides the reference voltage for output regulation. These pins are internally pulled up to a 1.68-V source with 80-uA pull-up current.", 16 VID2 (in) "Logic level inputs to the internal DAC that provides the reference voltage for output regulation. These pins are internally pulled up to a 1.68-V source with 80-uA pull-up current.", 17 EP "THERMAL PAD"

## TPS40200D
designator U?
Wide Input Non-Synchronous Buck DC / DC Controller, 90 % Duty Cycle, 4.5 to 52 V, -40 to 85 degC, 8-pin SOIC (D), Green (RoHS & no Sb/Br); Manufacturer: Texas Instruments; PartNumber: TPS40200D; Duty Cycle(Max)(%): 90; Iout(Max)(A): 3; Regulated Outputs(#): 1; SubFamily: Step-Down Controller; Switching Frequency(Max)(kHz): 500; Vin(Max)(V): 52; Vin(Min)(V): 4.5; Vout(Max)(V): 46; Vout(Min)(V): 0.7; DatasheetVersion: SLUS659F; PackageVersion: revM, Jun-2011; PackageReference: D8; PackageDescription: 8-Pin Plastic Small Outline Integrated Circuit, 4.9 x 3.9 mm, Pitch 1.27 mm Pitch; Supplier 1: Digi-Key; Supplier Part Number 1: 296-21153-5-ND; Supplier 2: Farnell; Supplier Part Number 2: 1365103; Supplier 3: Newark; Supplier Part Number 3: 80K3399; Supplier 4: Mouser; Supplier Part Number 4: 595-TPS40200D; Eco-Plan: Green (RoHS & no Sb/Br); Iout2(A): 3; Topology: Buck; Mounting Technology: Surface Mount; Code_JEDEC: MS-012AA; ComponentLink1Description: Datasheet; ComponentLink1URL: http://www.ti.com/general/docs/lit/getliterature.tsp?genericPartNumber=TPS40200&fileType=pdf; ComponentLink2Description: Package Specification; ComponentLink2URL: http://www.ti.com/litv/pdf/msoi002j
footprint D8_N (SOIC, 8-Leads, Body 4.9x3.9mm, Pitch 1.27mm, IPC Medium Density)
footprint D8_L (SOIC, 8-Leads, Body 4.9x3.9mm, Pitch 1.27mm, IPC High Density)
footprint D8_M (SOIC, 8-Leads, Body 4.9x3.9mm, Pitch 1.27mm, IPC Low Density)
pins: 1 RC "Switching frequency setting RC network. Connect a capacitor from the RC pin to the GND pin and connect a resistor from the VDD pin to the RC pin. The device may be synchronized to an external clock by connecting an open (See Datasheet)", 2 SS (in) "Soft-start programming pin. Connect capacitor from SS to GND to program soft start time. Pulling this pin below 150 mV causes the output switching to stop, placing the device in a shutdown state. The pin also functions as a (See Datasheet)", 3 COMP (out) "Error amplifier output. Connect control loop compensation network from COMP to FB.", 4 FB (in) "Error amplifier inverting input. Connect feedback resistor network center tap to this pin.", 5 GND (power) "Device ground.", 6 GDRV (out) "Driver output for external P-channel MOSFET", 7 ISNS (in) "Current-sense comparator input. Connect a current sense resistor between ISNS and VDD in order to set desired overcurrent threshold.", 8 VDD (power) "System input voltage. Connect local bypass capacitor from VDD to GND."

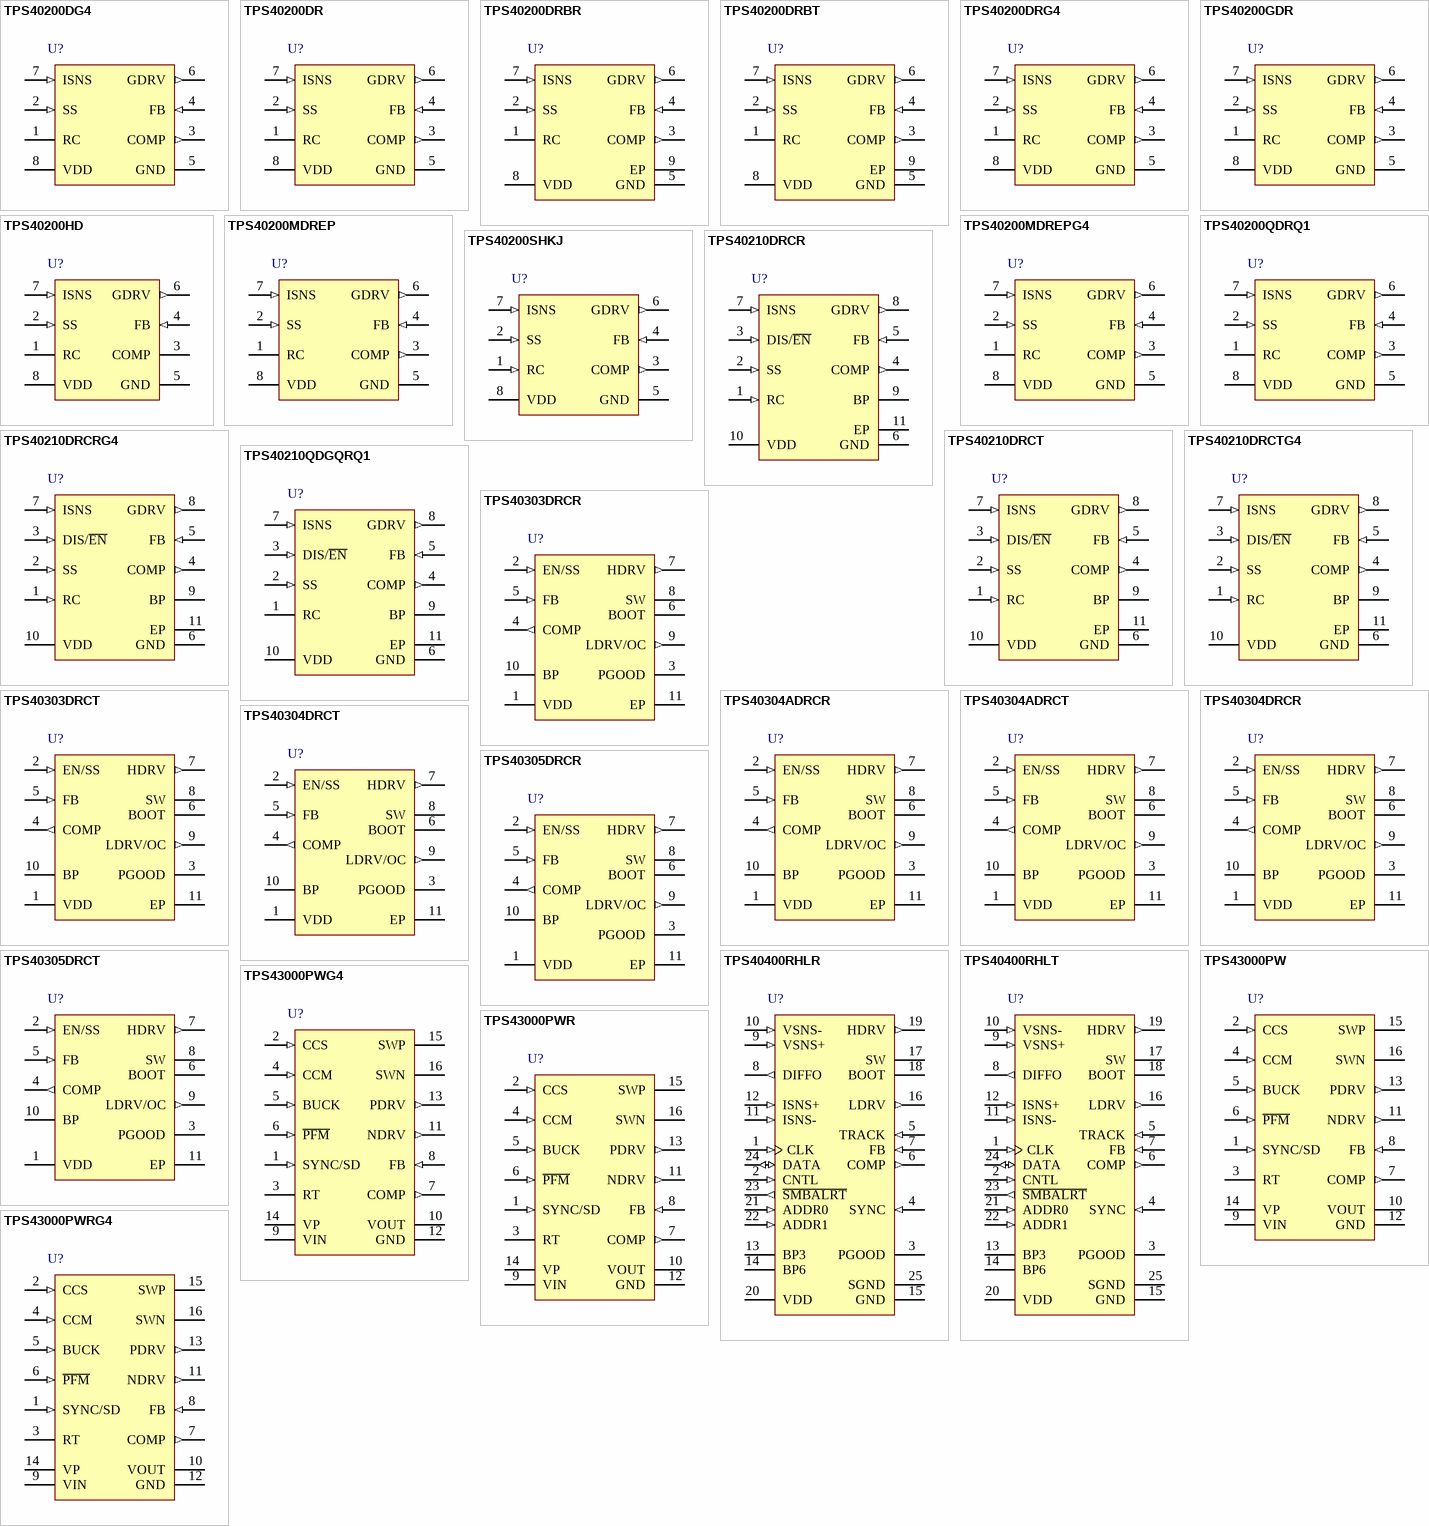
[diagram p8: symbols TPS40200DG4 to TPS43000PWRG4]

## TPS40200DG4
designator U?
Wide Input Non-Synchronous Buck DC / DC Controller, 90 % Duty Cycle, 4.5 to 52 V, -40 to 85 degC, 8-pin SOIC (D), Green (RoHS & no Sb/Br); Manufacturer: Texas Instruments; PartNumber: TPS40200DG4; Duty Cycle(Max)(%): 90; Iout(Max)(A): 3; Regulated Outputs(#): 1; SubFamily: Step-Down Controller; Switching Frequency(Max)(kHz): 500; Vin(Max)(V): 52; Vin(Min)(V): 4.5; Vout(Max)(V): 46; Vout(Min)(V): 0.7; DatasheetVersion: SLUS659F; PackageVersion: revM, Jun-2011; PackageReference: D8; PackageDescription: 8-Pin Plastic Small Outline Integrated Circuit, 4.9 x 3.9 mm, Pitch 1.27 mm Pitch; Supplier 1: Digi-Key; Supplier Part Number 1: TPS40200DG4-ND; Supplier 2: Farnell; Supplier Part Number 2: 1220988; Supplier 3: Newark; Supplier Part Number 3: 05M1619; Supplier 4: Newark; Supplier Part Number 4: 81K4146; Supplier 5: Mouser; Supplier Part Number 5: 595-TPS40200DG4; Eco-Plan: Green (RoHS & no Sb/Br); Iout2(A): 3; Topology: Buck; Mounting Technology: Surface Mount; Code_JEDEC: MS-012AA; ComponentLink1Description: Datasheet; ComponentLink1URL: http://www.ti.com/general/docs/lit/getliterature.tsp?genericPartNumber=TPS40200&fileType=pdf; ComponentLink2Description: Package Specification; ComponentLink2URL: http://www.ti.com/litv/pdf/msoi002j
footprint D8_N (SOIC, 8-Leads, Body 4.9x3.9mm, Pitch 1.27mm, IPC Medium Density)
footprint D8_L (SOIC, 8-Leads, Body 4.9x3.9mm, Pitch 1.27mm, IPC High Density)
footprint D8_M (SOIC, 8-Leads, Body 4.9x3.9mm, Pitch 1.27mm, IPC Low Density)
pins: 1 RC "Switching frequency setting RC network. Connect a capacitor from the RC pin to the GND pin and connect a resistor from the VDD pin to the RC pin. The device may be synchronized to an external clock by connecting an open (See Datasheet)", 2 SS (in) "Soft-start programming pin. Connect capacitor from SS to GND to program soft start time. Pulling this pin below 150 mV causes the output switching to stop, placing the device in a shutdown state. The pin also functions as a (See Datasheet)", 3 COMP (out) "Error amplifier output. Connect control loop compensation network from COMP to FB.", 4 FB (in) "Error amplifier inverting input. Connect feedback resistor network center tap to this pin.", 5 GND (power) "Device ground.", 6 GDRV (out) "Driver output for external P-channel MOSFET", 7 ISNS (in) "Current-sense comparator input. Connect a current sense resistor between ISNS and VDD in order to set desired overcurrent threshold.", 8 VDD (power) "System input voltage. Connect local bypass capacitor from VDD to GND."

## TPS40200DR
designator U?
Wide Input Non-Synchronous Buck DC / DC Controller, 90 % Duty Cycle, 4.5 to 52 V, -40 to 85 degC, 8-pin SOIC (D), Green (RoHS & no Sb/Br); Manufacturer: Texas Instruments; PartNumber: TPS40200DR; Duty Cycle(Max)(%): 90; Iout(Max)(A): 3; Regulated Outputs(#): 1; SubFamily: Step-Down Controller; Switching Frequency(Max)(kHz): 500; Vin(Max)(V): 52; Vin(Min)(V): 4.5; Vout(Max)(V): 46; Vout(Min)(V): 0.7; DatasheetVersion: SLUS659F; PackageVersion: revM, Jun-2011; PackageReference: D8; PackageDescription: 8-Pin Plastic Small Outline Integrated Circuit, 4.9 x 3.9 mm, Pitch 1.27 mm Pitch; Supplier 1: Digi-Key; Supplier Part Number 1: 296-26968-2-ND; Supplier 2: Digi-Key; Supplier Part Number 2: 296-26968-1-ND; Supplier 3: Digi-Key; Supplier Part Number 3: 296-26968-6-ND; Supplier 4: Newark; Supplier Part Number 4: 80K3400; Supplier 5: Mouser; Supplier Part Number 5: 595-TPS40200DR; Eco-Plan: Green (RoHS & no Sb/Br); Iout2(A): 3; Topology: Buck; Mounting Technology: Surface Mount; Code_JEDEC: MS-012AA; ComponentLink1Description: Datasheet; ComponentLink1URL: http://www.ti.com/general/docs/lit/getliterature.tsp?genericPartNumber=TPS40200&fileType=pdf; ComponentLink2Description: Package Specification; ComponentLink2URL: http://www.ti.com/litv/pdf/msoi002j
footprint D8_N (SOIC, 8-Leads, Body 4.9x3.9mm, Pitch 1.27mm, IPC Medium Density)
footprint D8_L (SOIC, 8-Leads, Body 4.9x3.9mm, Pitch 1.27mm, IPC High Density)
footprint D8_M (SOIC, 8-Leads, Body 4.9x3.9mm, Pitch 1.27mm, IPC Low Density)
pins: 1 RC "Switching frequency setting RC network. Connect a capacitor from the RC pin to the GND pin and connect a resistor from the VDD pin to the RC pin. The device may be synchronized to an external clock by connecting an open (See Datasheet)", 2 SS (in) "Soft-start programming pin. Connect capacitor from SS to GND to program soft start time. Pulling this pin below 150 mV causes the output switching to stop, placing the device in a shutdown state. The pin also functions as a (See Datasheet)", 3 COMP (out) "Error amplifier output. Connect control loop compensation network from COMP to FB.", 4 FB (in) "Error amplifier inverting input. Connect feedback resistor network center tap to this pin.", 5 GND (power) "Device ground.", 6 GDRV (out) "Driver output for external P-channel MOSFET", 7 ISNS (in) "Current-sense comparator input. Connect a current sense resistor between ISNS and VDD in order to set desired overcurrent threshold.", 8 VDD (power) "System input voltage. Connect local bypass capacitor from VDD to GND."

## TPS40200DRBR
designator U?
Wide Input Non-Synchronous Buck DC / DC Controller, 90 % Duty Cycle, 4.5 to 52 V, -40 to 85 degC, Green (RoHS & no Sb/Br); Manufacturer: Texas Instruments; PartNumber: TPS40200DRBR; Duty Cycle(Max)(%): 90; Iout(Max)(A): 3; Regulated Outputs(#): 1; SubFamily: Step-Down Controller; Switching Frequency(Max)(kHz): 500; Vin(Max)(V): 52; Vin(Min)(V): 4.5; Vout(Max)(V): 46; Vout(Min)(V): 0.7; DatasheetVersion: SLUS659F; PackageVersion: revK, Jun-2012; PackageReference: DRB8-2400X1650TP; PackageDescription: 8-Pin Plastic Small Outline No-Lead, 3 x 3 x 1 mm Body, 0.65 mm Pitch, Exposed Pad; Supplier 1: Digi-Key; Supplier Part Number 1: 296-23923-2-ND; Supplier 2: Digi-Key; Supplier Part Number 2: 296-23923-1-ND; Supplier 3: Digi-Key; Supplier Part Number 3: 296-23923-6-ND; Supplier 4: Mouser; Supplier Part Number 4: 595-TPS40200DRBR; Eco-Plan: Green (RoHS & no Sb/Br); Iout2(A): 3; Topology: Buck; Mounting Technology: Surface Mount; ComponentLink1Description: Datasheet; ComponentLink1URL: http://www.ti.com/general/docs/lit/getliterature.tsp?genericPartNumber=TPS40200&fileType=pdf; ComponentLink2Description: Package Specification; ComponentLink2URL: http://www.ti.com/litv/pdf/mpds118h
footprint DRB8-2400X1650TP (SON, 8-Leads, Body 3x3mm, Pitch 0.65mm, Thermal Pad 2.4x1.65mm, TI Recommended)
pins: 1 RC "Switching frequency setting RC network. Connect a capacitor from the RC pin to the GND pin and connect a resistor from the VDD pin to the RC pin. The device may be synchronized to an external clock by connecting an open (See Datasheet)", 2 SS (in) "Soft-start programming pin. Connect capacitor from SS to GND to program soft start time. Pulling this pin below 150 mV causes the output switching to stop, placing the device in a shutdown state. The pin also functions as a (See Datasheet)", 3 COMP (out) "Error amplifier output. Connect control loop compensation network from COMP to FB", 4 FB (in) "Error amplifier inverting input. Connect feedback resistor network center tap to this pin.", 5 GND (power) "Device ground.", 6 GDRV (out) "Driver output for external P-channel MOSFET", 7 ISNS (in) "Current-sense comparator input. Connect a current sense resistor between ISNS and VDD in order to set desired overcurrent threshold.", 8 VDD (power) "System input voltage. Connect local bypass capacitor from VDD to GND.", 9 EP

## TPS40200DRBT
designator U?
Wide Input Non-Synchronous Buck DC / DC Controller, 90 % Duty Cycle, 4.5 to 52 V, -40 to 85 degC, 8-pin SON (DRB), Green (RoHS & no Sb/Br); Manufacturer: Texas Instruments; PartNumber: TPS40200DRBT; Duty Cycle(Max)(%): 90; Iout(Max)(A): 3; Regulated Outputs(#): 1; SubFamily: Step-Down Controller; Switching Frequency(Max)(kHz): 500; Vin(Max)(V): 52; Vin(Min)(V): 4.5; Vout(Max)(V): 46; Vout(Min)(V): 0.7; DatasheetVersion: SLUS659F; PackageVersion: revK, Jun-2012; PackageReference: DRB8-2400X1650TP; PackageDescription: 8-Pin Plastic Small Outline No-Lead, 3 x 3 x 1 mm Body, 0.65 mm Pitch, Exposed Pad; Supplier 1: Digi-Key; Supplier Part Number 1: TPS40200DRBT-ND; Supplier 2: Newark; Supplier Part Number 2: 34P6489; Supplier 3: Mouser; Supplier Part Number 3: 595-TPS40200DRBT; Eco-Plan: Green (RoHS & no Sb/Br); Iout2(A): 3; Topology: Buck; Mounting Technology: Surface Mount; ComponentLink1Description: Datasheet; ComponentLink1URL: http://www.ti.com/general/docs/lit/getliterature.tsp?genericPartNumber=TPS40200&fileType=pdf; ComponentLink2Description: Package Specification; ComponentLink2URL: http://www.ti.com/litv/pdf/mpds118h
footprint DRB8-2400X1650TP (SON, 8-Leads, Body 3x3mm, Pitch 0.65mm, Thermal Pad 2.4x1.65mm, TI Recommended)
pins: 1 RC "Switching frequency setting RC network. Connect a capacitor from the RC pin to the GND pin and connect a resistor from the VDD pin to the RC pin. The device may be synchronized to an external clock by connecting an open (See Datasheet)", 2 SS (in) "Soft-start programming pin. Connect capacitor from SS to GND to program soft start time. Pulling this pin below 150 mV causes the output switching to stop, placing the device in a shutdown state. The pin also functions as a (See Datasheet)", 3 COMP (out) "Error amplifier output. Connect control loop compensation network from COMP to FB", 4 FB (in) "Error amplifier inverting input. Connect feedback resistor network center tap to this pin.", 5 GND (power) "Device ground.", 6 GDRV (out) "Driver output for external P-channel MOSFET", 7 ISNS (in) "Current-sense comparator input. Connect a current sense resistor between ISNS and VDD in order to set desired overcurrent threshold.", 8 VDD (power) "System input voltage. Connect local bypass capacitor from VDD to GND.", 9 EP

## TPS40200DRG4
designator U?
Wide Input Non-Synchronous Buck DC / DC Controller, 90 % Duty Cycle, 4.5 to 52 V, -40 to 85 degC, 8-pin SOIC (D), Green (RoHS & no Sb/Br); Manufacturer: Texas Instruments; PartNumber: TPS40200DRG4; Duty Cycle(Max)(%): 90; Iout(Max)(A): 3; Regulated Outputs(#): 1; SubFamily: Step-Down Controller; Switching Frequency(Max)(kHz): 500; Vin(Max)(V): 52; Vin(Min)(V): 4.5; Vout(Max)(V): 46; Vout(Min)(V): 0.7; DatasheetVersion: SLUS659F; PackageVersion: revM, Jun-2011; PackageReference: D8; PackageDescription: 8-Pin Plastic Small Outline Integrated Circuit, 4.9 x 3.9 mm, Pitch 1.27 mm Pitch; Supplier 1: Digi-Key; Supplier Part Number 1: TPS40200DRG4-ND; Supplier 2: Farnell; Supplier Part Number 2: 1511847; Supplier 3: Newark; Supplier Part Number 3: 59M7211; Supplier 4: Newark; Supplier Part Number 4: 81K4147; Supplier 5: Mouser; Supplier Part Number 5: 595-TPS40200DRG4; Eco-Plan: Green (RoHS & no Sb/Br); Iout2(A): 3; Topology: Buck; Mounting Technology: Surface Mount; Code_JEDEC: MS-012AA; ComponentLink1Description: Datasheet; ComponentLink1URL: http://www.ti.com/general/docs/lit/getliterature.tsp?genericPartNumber=TPS40200&fileType=pdf; ComponentLink2Description: Package Specification; ComponentLink2URL: http://www.ti.com/litv/pdf/msoi002j
footprint D8_N (SOIC, 8-Leads, Body 4.9x3.9mm, Pitch 1.27mm, IPC Medium Density)
footprint D8_L (SOIC, 8-Leads, Body 4.9x3.9mm, Pitch 1.27mm, IPC High Density)
footprint D8_M (SOIC, 8-Leads, Body 4.9x3.9mm, Pitch 1.27mm, IPC Low Density)
pins: 1 RC "Switching frequency setting RC network. Connect a capacitor from the RC pin to the GND pin and connect a resistor from the VDD pin to the RC pin. The device may be synchronized to an external clock by connecting an open (See Datasheet)", 2 SS (in) "Soft-start programming pin. Connect capacitor from SS to GND to program soft start time. Pulling this pin below 150 mV causes the output switching to stop, placing the device in a shutdown state. The pin also functions as a (See Datasheet)", 3 COMP (out) "Error amplifier output. Connect control loop compensation network from COMP to FB.", 4 FB (in) "Error amplifier inverting input. Connect feedback resistor network center tap to this pin.", 5 GND (power) "Device ground.", 6 GDRV (out) "Driver output for external P-channel MOSFET", 7 ISNS (in) "Current-sense comparator input. Connect a current sense resistor between ISNS and VDD in order to set desired overcurrent threshold.", 8 VDD (power) "System input voltage. Connect local bypass capacitor from VDD to GND."